# EAGLE library part PCI-EDGE-32BIT-UNIVERSAL (library dan-pci)
32-bit PCI edge connector (universal voltage key)
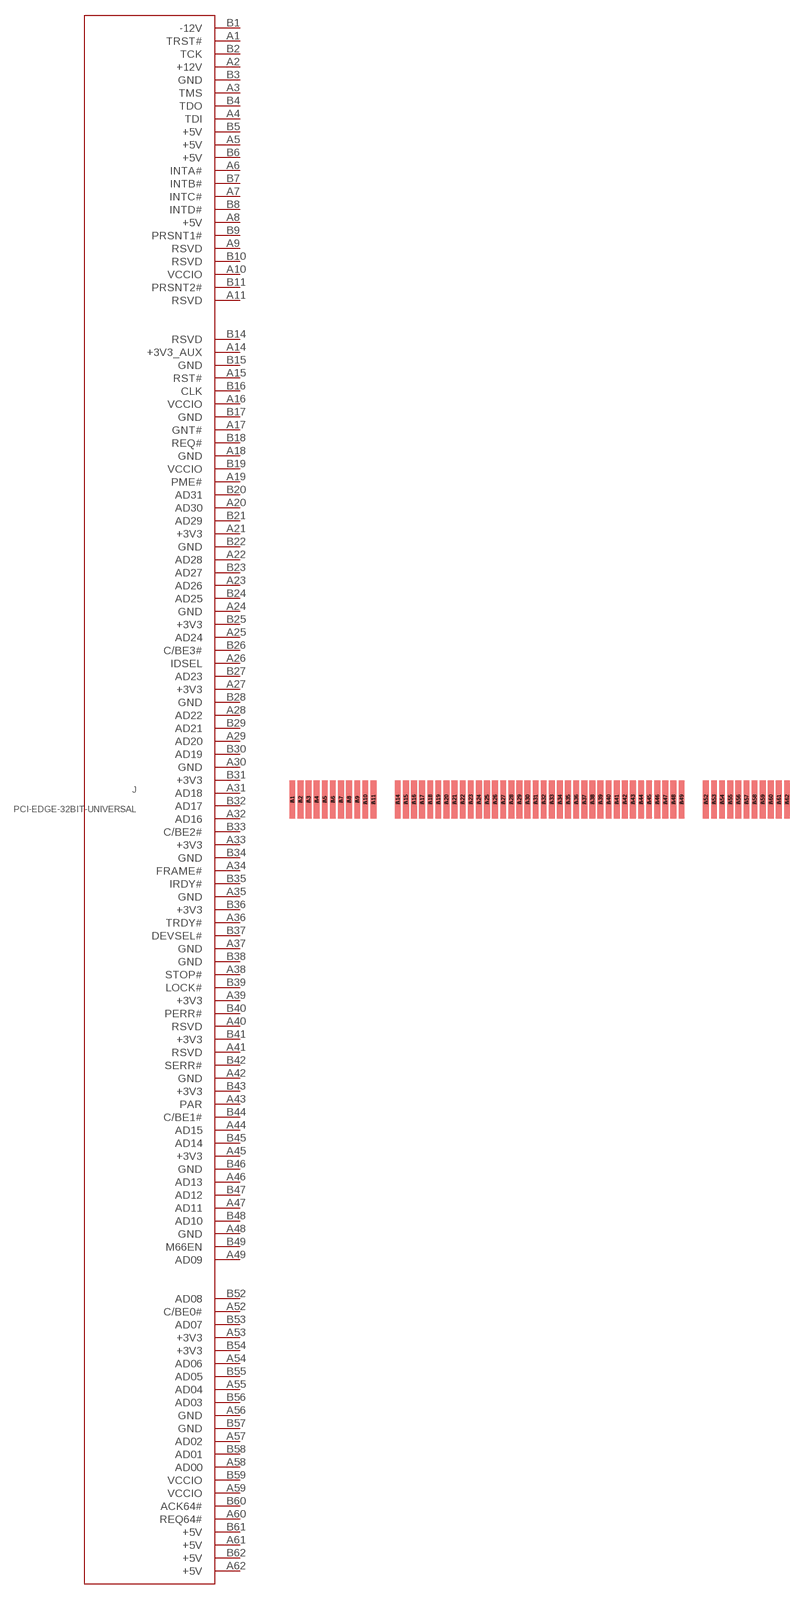
[diagram p0: symbol with the pads of PCI-EDGE-32BIT-UNIVERSAL; footprint PCI-EDGE-32BIT-UNIVERSAL]

Designator prefix J

## PCI-EDGE-32BIT-UNIVERSAL  [PCI-EDGE-32BIT-UNIVERSAL]
A1  TRST#
A2  +12V  pas
A3  TMS
A4  TDI
A5  +5V  pas
A6  INTA#
A7  INTC#
A8  +5V  pas
A9  RSVD  nc
A10  VCCIO  pas
A11  RSVD  nc
A14  +3V3_AUX  pas
A15  RST#
A16  VCCIO
A17  GNT#
A18  GND  pas
A19  PME#
A20  AD30
A21  +3V3  pas
A22  AD28
A23  AD26
A24  GND  pas
A25  AD24
A26  IDSEL
A27  +3V3  pas
A28  AD22
A29  AD20
A30  GND  pas
A31  AD18
A32  AD16
A33  +3V3  pwr
A34  FRAME#
A35  GND  pas
A36  TRDY#
A37  GND  pas
A38  STOP#
A39  +3V3  pas
A40  RSVD  nc
A41  RSVD  nc
A42  GND  pas
A43  PAR
A44  AD15
A45  +3V3  pas
A46  AD13
A47  AD11
A48  GND  pas
A49  AD09
A52  C/BE0#
A53  +3V3  pas
A54  AD06
A55  AD04
A56  GND  pas
A57  AD02
A58  AD00
A59  VCCIO  pas
A60  REQ64#
A61  +5V  pas
A62  +5V  pas
B1  -12V  pas
B2  TCK
B3  GND  pwr
B4  TDO
B5  +5V  pas
B6  +5V  pas
B7  INTB#
B8  INTD#
B9  PRSNT1#
B10  RSVD  nc
B11  PRSNT2#
B14  RSVD  nc
B15  GND  pas
B16  CLK
B17  GND  pas
B18  REQ#
B19  VCCIO  pas
B20  AD31
B21  AD29
B22  GND  pas
B23  AD27
B24  AD25
B25  +3V3  pas
B26  C/BE3#
B27  AD23
B28  GND  pas
B29  AD21
B30  AD19
B31  +3V3  pas
B32  AD17
B33  C/BE2#
B34  GND
B35  IRDY#
B36  +3V3  pas
B37  DEVSEL#
B38  GND  pas
B39  LOCK#
B40  PERR#
B41  +3V3  pas
B42  SERR#
B43  +3V3  pas
B44  C/BE1#
B45  AD14
B46  GND
B47  AD12
B48  AD10
B49  M66EN
B52  AD08
B53  AD07
B54  +3V3  pas
B55  AD05
B56  AD03
B57  GND  pas
B58  AD01
B59  VCCIO  pas
B60  ACK64#
B61  +5V  pas
B62  +5V  pas

## Footprint PCI-EDGE-32BIT-UNIVERSAL (pad centres in mm)
PCI Connector 60 Dual Position 0.05 Series Standard Edge Source: http://catalog.tycoelectronics.com .. ENG_CD_145167_F.pdf
smd 0.91 x 6 bottom: A1 41.91,3.765; A2 43.18,3.765; A3 44.45,3.765; A4 45.72,3.765; A5 46.99,3.765; A6 48.26,3.765; A7 49.53,3.765; A8 50.8,3.765; A9 52.07,3.765; A10 53.34,3.765; A11 54.61,3.765; A14 58.42,3.765; A15 59.69,3.765; A16 60.96,3.765; A17 62.23,3.765; A18 63.5,3.765; A19 64.77,3.765; A20 66.04,3.765; A21 67.31,3.765; A22 68.58,3.765; A23 69.85,3.765; A24 71.12,3.765; A25 72.39,3.765; A26 73.66,3.765; A27 74.93,3.765; A28 76.2,3.765; A29 77.47,3.765; A30 78.74,3.765; A31 80.01,3.765; A32 81.28,3.765; A33 82.55,3.765; A34 83.82,3.765; A35 85.09,3.765; A36 86.36,3.765; A37 87.63,3.765; A38 88.9,3.765; A39 90.17,3.765; A40 91.44,3.765; A41 92.71,3.765; A42 93.98,3.765; A43 95.25,3.765; A44 96.52,3.765; A45 97.79,3.765; A46 99.06,3.765; A47 100.33,3.765; A48 101.6,3.765; A49 102.87,3.765; A52 106.68,3.765; A53 107.95,3.765; A54 109.22,3.765; A55 110.49,3.765; A56 111.76,3.765; A57 113.03,3.765; A58 114.3,3.765; A59 115.57,3.765; A60 116.84,3.765; A61 118.11,3.765; A62 119.38,3.765
smd 0.91 x 6: B1 41.91,3.765; B2 43.18,3.765; B3 44.45,3.765; B4 45.72,3.765; B5 46.99,3.765; B6 48.26,3.765; B7 49.53,3.765; B8 50.8,3.765; B9 52.07,3.765; B10 53.34,3.765; B11 54.61,3.765; B14 58.42,3.765; B15 59.69,3.765; B16 60.96,3.765; B17 62.23,3.765; B18 63.5,3.765; B19 64.77,3.765; B20 66.04,3.765; B21 67.31,3.765; B22 68.58,3.765; B23 69.85,3.765; B24 71.12,3.765; B25 72.39,3.765; B26 73.66,3.765; B27 74.93,3.765; B28 76.2,3.765; B29 77.47,3.765; B30 78.74,3.765; B31 80.01,3.765; B32 81.28,3.765; B33 82.55,3.765; B34 83.82,3.765; B35 85.09,3.765; B36 86.36,3.765; B37 87.63,3.765; B38 88.9,3.765; B39 90.17,3.765; B40 91.44,3.765; B41 92.71,3.765; B42 93.98,3.765; B43 95.25,3.765; B44 96.52,3.765; B45 97.79,3.765; B46 99.06,3.765; B47 100.33,3.765; B48 101.6,3.765; B49 102.87,3.765; B52 106.68,3.765; B53 107.95,3.765; B54 109.22,3.765; B55 110.49,3.765; B56 111.76,3.765; B57 113.03,3.765; B58 114.3,3.765; B59 115.57,3.765; B60 116.84,3.765; B61 118.11,3.765; B62 119.38,3.765